# Altium schematic symbol library SG_GOST_Transistors.SchLib: 2 symbols
Pins are listed as number, name and electrical type; pins without a type are passive.

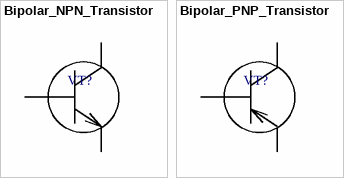
[diagram p0: symbols Bipolar_NPN_Transistor to Bipolar_PNP_Transistor]

## Bipolar_NPN_Transistor
designator VT?  (value not drawn)
Транзистор n-p-n; Value: *; Order: ="Транзистор "+Value+', '+Manufacturer + ', '+ManufacturerCountry; Manufacturer: *; ManufacturerCountry: *
pins: 1, 2, 3

## Bipolar_PNP_Transistor
designator VT?  (value not drawn)
Транзистор p-n-p; Value: *; Order: ="Транзистор "+Value+', '+Manufacturer + ', '+ManufacturerCountry; Manufacturer: *; ManufacturerCountry: *
footprint TO-252
pins: 1 2, 2 3, 3 1